# EAGLE library part MCP9600 (library reach_custom)
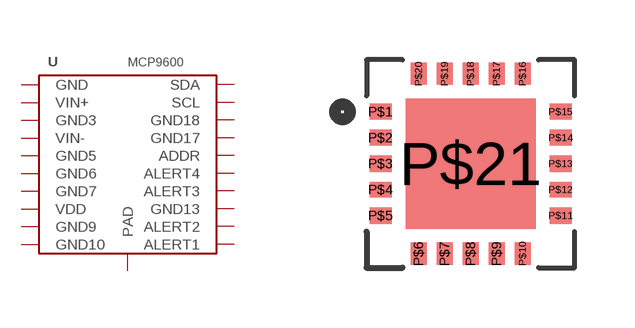
[diagram p0: symbol with the pads of MQFN-20; footprint MQFN-20]

Designator prefix U

## MCP9600  [MQFN-20]
P$1  GND
P$2  VIN+
P$3  GND3
P$4  VIN-
P$5  GND5
P$6  GND6
P$7  GND7
P$8  VDD
P$9  GND9
P$10  GND10
P$11  ALERT1
P$12  ALERT2
P$13  GND13
P$14  ALERT3
P$15  ALERT4
P$16  ADDR
P$17  GND17
P$18  GND18
P$19  SCL
P$20  SDA
P$21  PAD

## Footprint MQFN-20 (pad centres in mm)
MQFN-20 (VQFN) For MCP9600 be sure to add vias in thermal pad during layout. 9 evenly spaced holes, 0.3mm diameter.
smd 0.55 x 0.4: P$1 -2.25,1.3; P$2 -2.25,0.65; P$3 -2.25,0; P$4 -2.25,-0.65; P$5 -2.25,-1.3; P$11 2.25,-1.3; P$12 2.25,-0.65; P$13 2.25,0; P$14 2.25,0.65; P$15 2.25,1.3
smd 0.4 x 0.55: P$6 -1.3,-2.25; P$7 -0.65,-2.25; P$8 0,-2.25; P$9 0.65,-2.25; P$10 1.3,-2.25; P$16 1.3,2.25; P$17 0.65,2.25; P$18 0,2.25; P$19 -0.65,2.25; P$20 -1.3,2.25
smd 3.25 x 3.25: P$21 0,0